# Altium schematic symbol library MDM-31.Schlib: 1 symbol
Pins are listed as number, name and electrical type; pins without a type are passive.

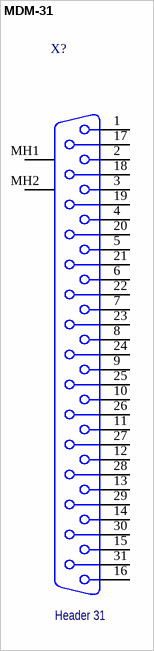
[diagram p0: symbol MDM-31]

## MDM-31
designator Х?  Наименование: Header 31  (hidden comment: MDM-31)
Receptacle Assembly, 31 Position, Right Angle; Назначение: Соединитель угловой на плату
footprint MDM-31
pins: 1, 2, 3, 4, 5, 6, 7, 8, 9, 10, 11, 12, 13, 14, 15, 16, 17, 18, 19, 20, 21, 22, 23, 24, 25, 26, 27, 28, 29, 30, 31, MH1, MH2